# EAGLE library part LMH1251 (library lmh1251)
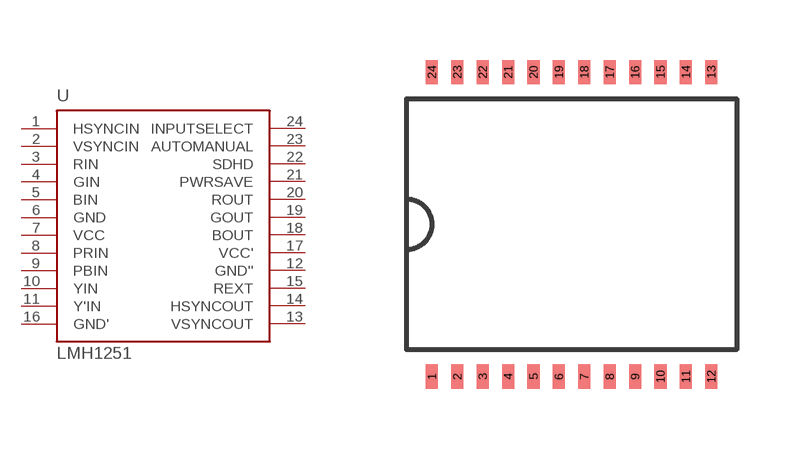
[diagram p0: symbol with the pads of SSOP24; footprint SSOP24]

Designator prefix -

## LMH1251  [SSOP24]
1  HSYNCIN  in
2  VSYNCIN  in
3  RIN  in
4  GIN  in
5  BIN  in
6  GND  pwr
7  VCC  pwr
8  PRIN  in
9  PBIN  in
10  YIN  in
11  Y'IN  in
12  GND''  pwr
13  VSYNCOUT  out
14  HSYNCOUT  out
15  REXT  out
16  GND'  pwr
17  VCC'  pwr
18  BOUT  out
19  GOUT  out
20  ROUT  out
21  PWRSAVE  in
22  SDHD
23  AUTOMANUAL  in
24  INPUTSELECT  in

## Footprint SSOP24 (pad centres in mm)
smd 0.305 x 0.61: 1 -3.493,-3.81; 2 -2.857,-3.81; 3 -2.223,-3.81; 4 -1.587,-3.81; 5 -0.953,-3.81; 6 -0.318,-3.81; 7 0.318,-3.81; 8 0.953,-3.81; 9 1.587,-3.81; 10 2.223,-3.81; 11 2.857,-3.81; 12 3.493,-3.81; 13 3.493,3.81; 14 2.857,3.81; 15 2.223,3.81; 16 1.587,3.81; 17 0.953,3.81; 18 0.318,3.81; 19 -0.318,3.81; 20 -0.953,3.81; 21 -1.587,3.81; 22 -2.223,3.81; 23 -2.857,3.81; 24 -3.493,3.81